# EAGLE library part TMUX1219DCKR (library RoboJackets-ICs)
1 Circuit IC Switch 2:1 3Ohm (Typ) SC-70-6 DigiKey <https://www.digikey.com/products/en/integrated-circuits-ics/interface-analog-switches-multiplexers-demultiplexers/747?k=tmux1219&k=&pkeyword=tmux1219&sv=0&pv7=2&sf=0&quantity=&ColumnSort=0&page=1&pageSize=25>
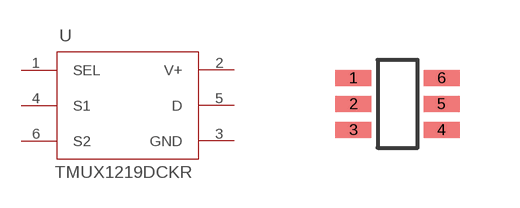
[diagram p47: symbol with the pads of SOT-363; footprint SOT-363]

Designator prefix U

## TMUX1219DCKR (DKPN: 296-TMUX1219DCKRCT-ND)  [SOT-363]
1  SEL  pas
2  V+  pas
3  GND  pas
4  S1  pas
5  D  pas
6  S2  pas

## Footprint SOT-363 (pad centres in mm)
smd 0.9 x 0.4: 1 -1.1,0.65; 2 -1.1,0; 3 -1.1,-0.65; 4 1.1,-0.65; 5 1.1,0; 6 1.1,0.65